# EAGLE library part CKC5100 (library ads)
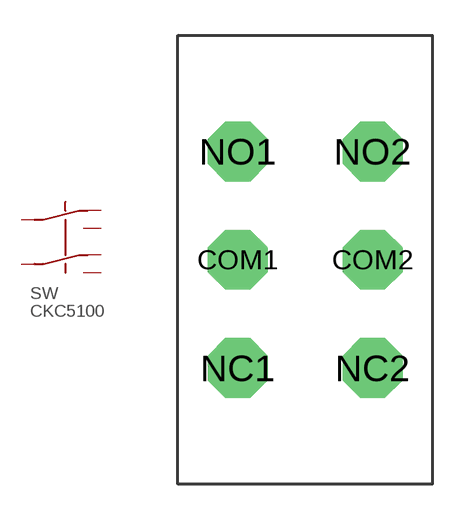
[diagram p17: symbol with the pads of CKC5100; footprint CKC5100]

Designator prefix SW

## CKC5100  [CKC5100]
COM1  COM1  pas
COM2  COM2  pas
NC1  NC1  pas
NC2  NC2  pas
NO1  NO1  pas
NO2  NO2  pas

## Footprint CKC5100 (pad centres in mm)
drill 1.422 pad 2.54 octagon: COM1 2.54,-9.525; COM2 8.255,-9.525; NC1 2.54,-14.122; NC2 8.255,-14.122; NO1 2.54,-4.928; NO2 8.255,-4.928